# Altium footprint library 1212-SWLH.PcbLib: 1 footprints
Each footprint in its own frame and in the unit in brackets; x right, y up, seen from the top. Pads: shape width x height; smd on the part's side, far side on the other; paste and mask are expansions set on the pad; w line width, h text height; cw(c..) or ccw(c..) is an arc to the next point about the centre after c.
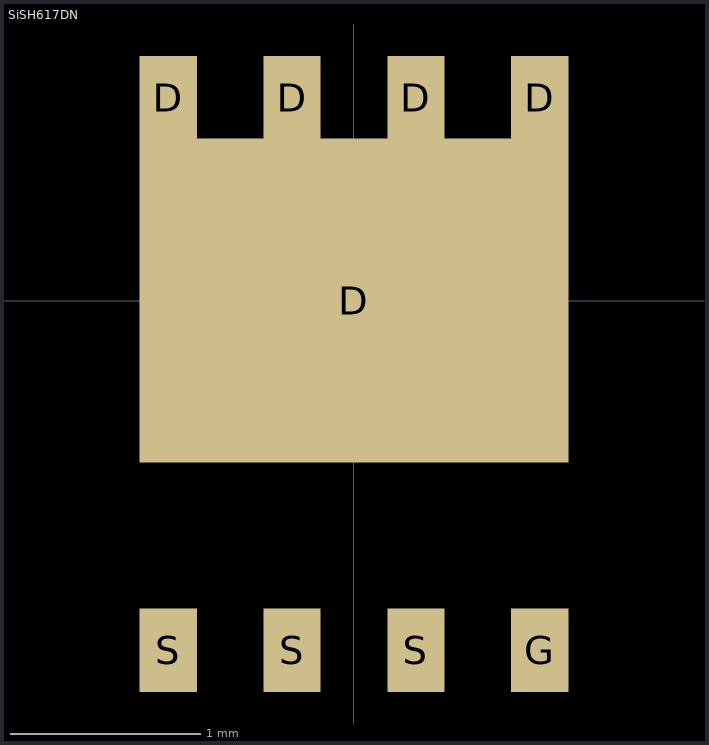
[diagram p0: the footprint, top view; thin cyan lines are the x and y axes]

## SiSH617DN [mm]
pads (9):
  rect 0.3x0.44 smd: D(-0.975,1.065) D(-0.325,1.065) D(0.325,1.065) D(0.975,1.065) G(0.975,-1.835) S(-0.975,-1.835) S(-0.325,-1.835) S(0.325,-1.835)
  rect 2.25x1.7 smd: D(0,0)
3D body: height 0.9, standoff 0, extent -1.65,-2.025 1.65,1.275